# Altium footprint library Res_Vishay_CRCW251210K0FKEG_10kOhm_IPC_C.PcbLib: 1 footprints
Each footprint in its own frame and in the unit in brackets; x right, y up, seen from the top. Pads: shape width x height; smd on the part's side, far side on the other; paste and mask are expansions set on the pad; w line width, h text height; cw(c..) or ccw(c..) is an arc to the next point about the centre after c.
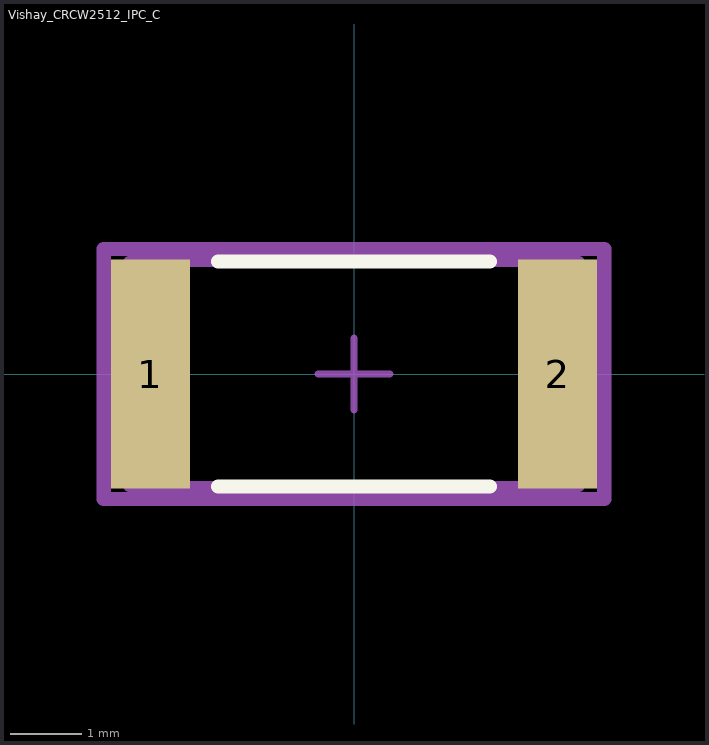
[diagram p0: the footprint, top view; thin cyan lines are the x and y axes]

## Vishay_CRCW2512_IPC_C [mil]
pads (2):
  rect 43.5x126.31 smd paste+0 mask+0: 1(-112.23,0) 2(112.23,0)
Top Overlay:
  lines w7.87: -74.8,-62.01 74.8,-62.01 ; -74.8,62.01 74.8,62.01
Mechanical 10:
  lines w7.87: -137.92,-68.9 -137.92,68.9 137.92,68.9 137.92,-68.9 -137.92,-68.9
  text ".Designator" at 0,0 h39.37
Mechanical 12:
  lines w5.91: -124.02,-62.01 -124.02,62.01 124.02,62.01 124.02,-62.01 -124.02,-62.01
Mechanical 15:
  lines w3.94: -19.68,0 19.68,0 ; 0,-19.68 0,19.68
  lines w7.87: -137.92,-68.9 -137.92,68.9 137.92,68.9 137.92,-68.9 -137.92,-68.9
3D body "Res_Vishay_CRCW251210K0FKEG_eec.STEP": height 10, standoff 0, extent -137.92,-68.9 137.92,68.9